# Altium footprint library J 接插件.PcbLib: 458 footprints (part 12 of 29)
Each footprint in its own frame and in the unit in brackets; x right, y up, seen from the top. Pads: shape width x height; smd on the part's side, far side on the other; paste and mask are expansions set on the pad; w line width, h text height; cw(c..) or ccw(c..) is an arc to the next point about the centre after c.
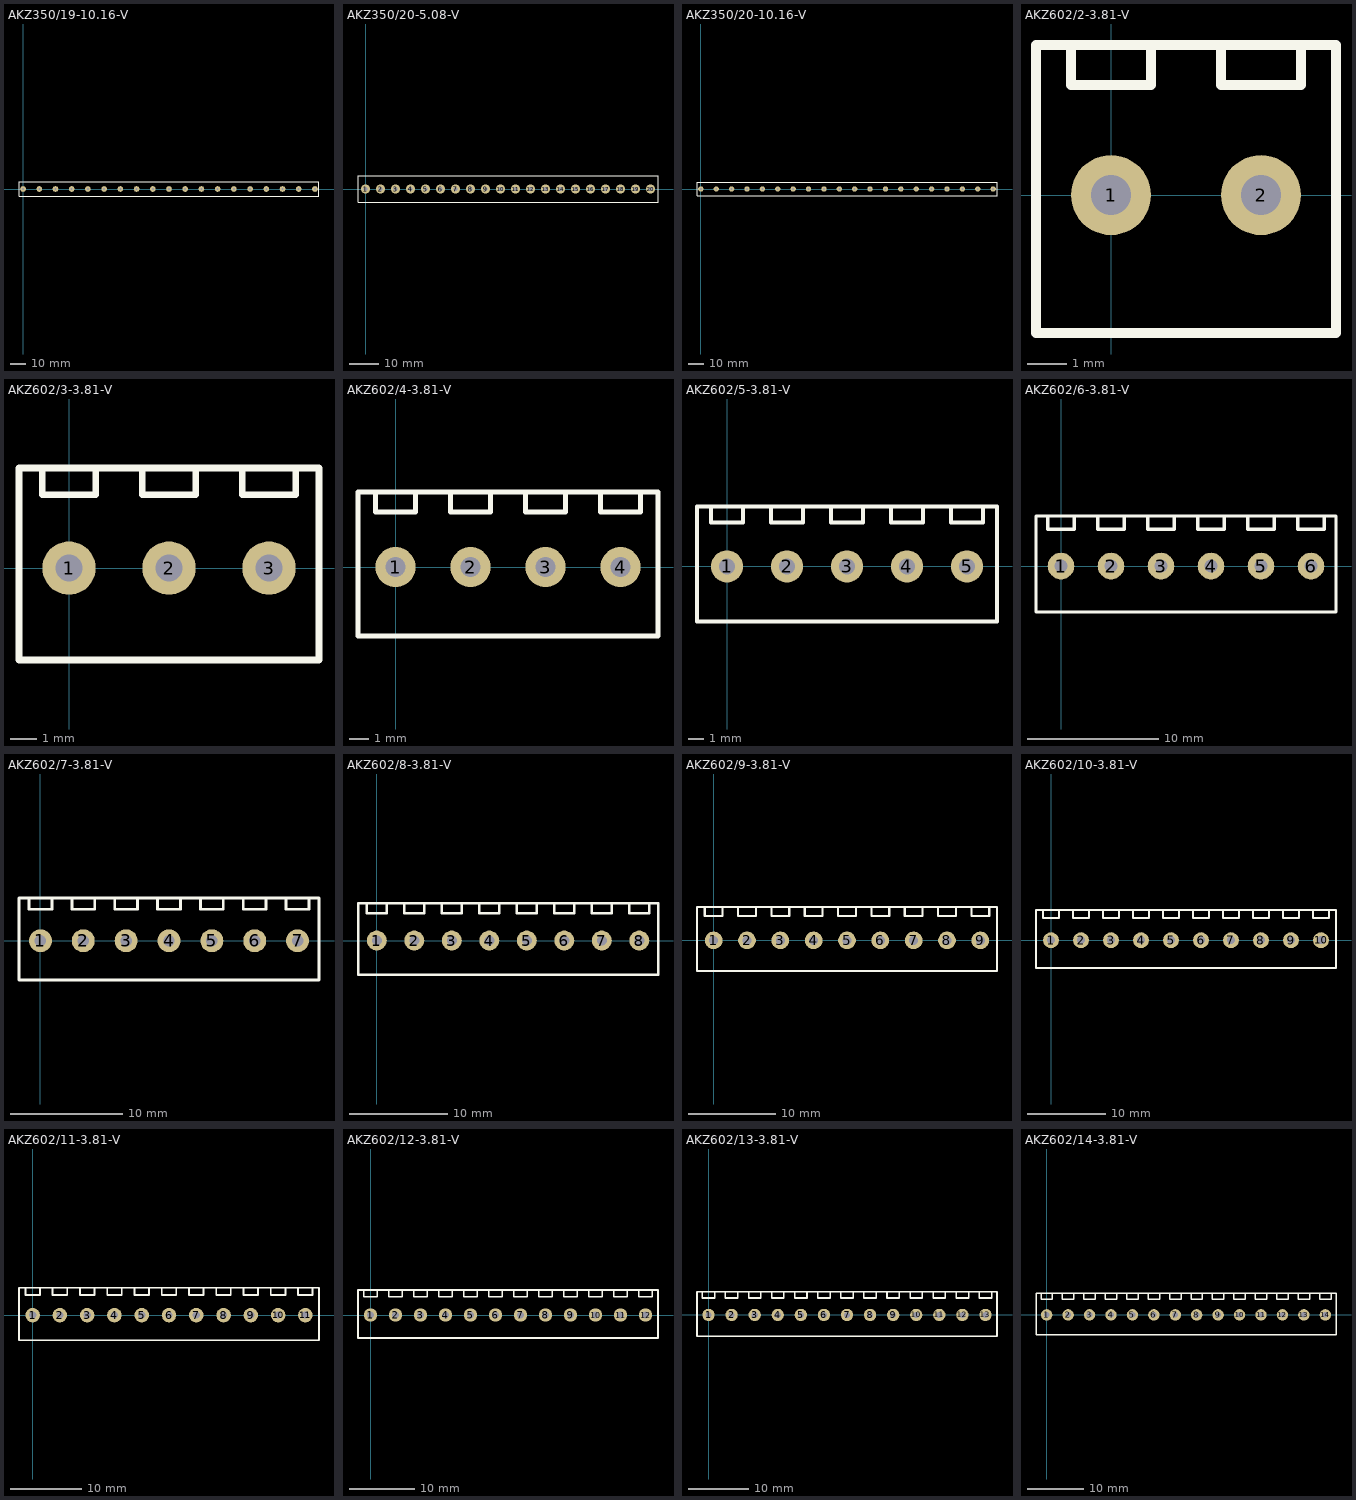
[diagram p11: the footprints below, top view; thin cyan lines are the x and y axes]

## AKZ350/19-10.16-V [mil] "美卡诺 AKZ350 接触件 间距：10.16   19Pin"
height 531.5
pads (19):
  round 140 hole 50: 1(0,0) 2(400,0) 3(800,0) 4(1200,0) 5(1600,0) 6(2000,0) 7(2400,0) 8(2800,0) 9(3200,0) 10(3600,0) 11(4000,0) 12(4400,0) 13(4800,0) 14(5200,0) 15(5600,0) 16(6000,0) 17(6400,0) 18(6800,0) 19(7200,0)
Top Overlay:
  lines w10: -100,-175 -100,175 7300,175 7300,-175 -100,-175

## AKZ350/20-5.08-V [mil] "美卡诺 AKZ350 接触件 间距：5.08   20Pin"
height 531.5
pads (20):
  round 120 hole 50: 1(0,0) 2(200,0) 3(400,0) 4(600,0) 5(800,0) 6(1000,0) 7(1200,0) 8(1400,0) 9(1600,0) 10(1800,0) 11(2000,0) 12(2200,0) 13(2400,0) 14(2600,0) 15(2800,0) 16(3000,0) 17(3200,0) 18(3400,0) 19(3600,0) 20(3800,0)
Top Overlay:
  lines w10: -100,-175 3900,-175 3900,175 -100,175 -100,-175

## AKZ350/20-10.16-V [mil] "美卡诺 AKZ350 接触件 间距：10.16   20Pin"
height 531.5
pads (20):
  round 140 hole 50: 1(0,0) 2(400,0) 3(800,0) 4(1200,0) 5(1600,0) 6(2000,0) 7(2400,0) 8(2800,0) 9(3200,0) 10(3600,0) 11(4000,0) 12(4400,0) 13(4800,0) 14(5200,0) 15(5600,0) 16(6000,0) 17(6400,0) 18(6800,0) 19(7200,0) 20(7600,0)
Top Overlay:
  lines w10: -100,-175 7700,-175 7700,175 -100,175 -100,-175

## AKZ602/2-3.81-V [mil] "美卡诺 AKZ602 接触件 间距：3.81   2Pin"
height 393.7
pads (2):
  round 80 hole 40: 1(0,0) 2(150,0)
Top Overlay:
  lines w10: -40,150 -40,110 40,110 40,150 ; 110,150 110,110 190,110 190,150 ; -75,-137.8 -75,0 -75,150 225,150 225,-137.8 -75,-137.8

## AKZ602/3-3.81-V [mil] "美卡诺 AKZ602 接触件 间距：3.81   3Pin"
height 393.7
pads (3):
  round 80 hole 40: 1(0,0) 2(150,0) 3(300,0)
Top Overlay:
  lines w10: -40,150 -40,110 40,110 40,150 ; 110,150 110,110 190,110 190,150 ; 260,150 260,110 340,110 340,150 ; -75,-137.8 -75,0 -75,150 375,150 375,-137.8 -75,-137.8

## AKZ602/4-3.81-V [mil] "美卡诺 AKZ602 接触件 间距：3.81   4Pin"
height 393.7
pads (4):
  round 80 hole 40: 1(0,0) 2(150,0) 3(300,0) 4(450,0)
Top Overlay:
  lines w10: -40,150 -40,110 40,110 40,150 ; 110,150 110,110 190,110 190,150 ; 260,150 260,110 340,110 340,150 ; 410,150 410,110 490,110 490,150 ; -75,-137.8 525,-137.8 525,150 -75,150 -75,0 -75,-137.8

## AKZ602/5-3.81-V [mil] "美卡诺 AKZ602 接触件 间距：3.81   5Pin"
height 393.7
pads (5):
  round 80 hole 40: 1(0,0) 2(150,0) 3(300,0) 4(450,0) 5(600,0)
Top Overlay:
  lines w10: -40,150 -40,110 40,110 40,150 ; 110,150 110,110 190,110 190,150 ; 260,150 260,110 340,110 340,150 ; 410,150 410,110 490,110 490,150 ; 560,150 560,110 640,110 640,150 ; -75,-137.8 675,-137.8 675,150 -75,150 -75,0 -75,-137.8

## AKZ602/6-3.81-V [mil] "美卡诺 AKZ602 接触件 间距：3.81   6Pin"
height 393.7
pads (6):
  round 80 hole 40: 1(0,0) 2(150,0) 3(300,0) 4(450,0) 5(600,0) 6(750,0)
Top Overlay:
  lines w10: -40,150 -40,110 40,110 40,150 ; 110,150 110,110 190,110 190,150 ; 260,150 260,110 340,110 340,150 ; 410,150 410,110 490,110 490,150 ; 560,150 560,110 640,110 640,150 ; 710,150 710,110 790,110 790,150 ; -75,-137.8 -75,0 -75,150 825,150 825,-137.8 -75,-137.8

## AKZ602/7-3.81-V [mil] "美卡诺 AKZ602 接触件 间距：3.81   7Pin"
height 393.7
pads (7):
  round 80 hole 40: 1(0,0) 2(150,0) 3(300,0) 4(450,0) 5(600,0) 6(750,0) 7(900,0)
Top Overlay:
  lines w10: -40,150 -40,110 40,110 40,150 ; 110,150 110,110 190,110 190,150 ; 260,150 260,110 340,110 340,150 ; 410,150 410,110 490,110 490,150 ; 560,150 560,110 640,110 640,150 ; 710,150 710,110 790,110 790,150 ; 860,150 860,110 940,110 940,150 ; -75,-137.8 975,-137.8 975,150 -75,150 -75,0 -75,-137.8

## AKZ602/8-3.81-V [mil] "美卡诺 AKZ602 接触件 间距：3.81   8Pin"
height 393.7
pads (8):
  round 80 hole 40: 1(0,0) 2(150,0) 3(300,0) 4(450,0) 5(600,0) 6(750,0) 7(900,0) 8(1050,0)
Top Overlay:
  lines w10: -40,150 -40,110 40,110 40,150 ; 110,150 110,110 190,110 190,150 ; 260,150 260,110 340,110 340,150 ; 410,150 410,110 490,110 490,150 ; 560,150 560,110 640,110 640,150 ; 710,150 710,110 790,110 790,150 ; 860,150 860,110 940,110 940,150 ; 1010,150 1010,110 1090,110 1090,150 ; -75,-137.8 1125,-137.8 1125,150 -75,150 -75,0 -75,-137.8

## AKZ602/9-3.81-V [mil] "美卡诺 AKZ602 接触件 间距：3.81   9Pin"
height 393.7
pads (9):
  round 80 hole 40: 1(0,0) 2(150,0) 3(300,0) 4(450,0) 5(600,0) 6(750,0) 7(900,0) 8(1050,0) 9(1200,0)
Top Overlay:
  lines w10: -40,150 -40,110 40,110 40,150 ; 110,150 110,110 190,110 190,150 ; 260,150 260,110 340,110 340,150 ; 410,150 410,110 490,110 490,150 ; 560,150 560,110 640,110 640,150 ; 710,150 710,110 790,110 790,150 ; 860,150 860,110 940,110 940,150 ; 1010,150 1010,110 1090,110 1090,150 ; 1160,150 1160,110 1240,110 1240,150 ; -75,-137.8 1275,-137.8 1275,150 -75,150 -75,0 -75,-137.8

## AKZ602/10-3.81-V [mil] "美卡诺 AKZ602 接触件 间距：3.81   10Pin"
height 393.7
pads (10):
  round 80 hole 40: 1(0,0) 2(150,0) 3(300,0) 4(450,0) 5(600,0) 6(750,0) 7(900,0) 8(1050,0) 9(1200,0) 10(1350,0)
Top Overlay:
  lines w10: -40,150 -40,110 40,110 40,150 ; 110,150 110,110 190,110 190,150 ; 260,150 260,110 340,110 340,150 ; 410,150 410,110 490,110 490,150 ; 560,150 560,110 640,110 640,150 ; 710,150 710,110 790,110 790,150 ; 860,150 860,110 940,110 940,150 ; 1010,150 1010,110 1090,110 1090,150 ; 1160,150 1160,110 1240,110 1240,150 ; 1310,150 1310,110 1390,110 1390,150 ; -75,-137.8 1425,-137.8 1425,150 -75,150 -75,0 -75,-137.8

## AKZ602/11-3.81-V [mil] "美卡诺 AKZ602 接触件 间距：3.81   11Pin"
height 393.7
pads (11):
  round 80 hole 40: 1(0,0) 2(150,0) 3(300,0) 4(450,0) 5(600,0) 6(750,0) 7(900,0) 8(1050,0) 9(1200,0) 10(1350,0) 11(1500,0)
Top Overlay:
  lines w10: -40,150 -40,110 40,110 40,150 ; 110,150 110,110 190,110 190,150 ; 260,150 260,110 340,110 340,150 ; 410,150 410,110 490,110 490,150 ; 560,150 560,110 640,110 640,150 ; 710,150 710,110 790,110 790,150 ; 860,150 860,110 940,110 940,150 ; 1010,150 1010,110 1090,110 1090,150 ; 1160,150 1160,110 1240,110 1240,150 ; 1310,150 1310,110 1390,110 1390,150 ; 1460,150 1460,110 1540,110 1540,150 ; -75,-137.8 -75,0 -75,150 1575,150 1575,-137.8 -75,-137.8

## AKZ602/12-3.81-V [mil] "美卡诺 AKZ602 接触件 间距：3.81   12Pin"
height 393.7
pads (12):
  round 80 hole 40: 1(0,0) 2(150,0) 3(300,0) 4(450,0) 5(600,0) 6(750,0) 7(900,0) 8(1050,0) 9(1200,0) 10(1350,0) 11(1500,0) 12(1650,0)
Top Overlay:
  lines w10: -40,150 -40,110 40,110 40,150 ; 110,150 110,110 190,110 190,150 ; 260,150 260,110 340,110 340,150 ; 410,150 410,110 490,110 490,150 ; 560,150 560,110 640,110 640,150 ; 710,150 710,110 790,110 790,150 ; 860,150 860,110 940,110 940,150 ; 1010,150 1010,110 1090,110 1090,150 ; 1160,150 1160,110 1240,110 1240,150 ; 1310,150 1310,110 1390,110 1390,150 ; 1460,150 1460,110 1540,110 1540,150 ; 1610,150 1610,110 1690,110 1690,150 ; -75,-137.8 -75,0 -75,150 1725,150 1725,-137.8 -75,-137.8

## AKZ602/13-3.81-V [mil] "美卡诺 AKZ602 接触件 间距：3.81   13Pin"
height 393.7
pads (13):
  round 80 hole 40: 1(0,0) 2(150,0) 3(300,0) 4(450,0) 5(600,0) 6(750,0) 7(900,0) 8(1050,0) 9(1200,0) 10(1350,0) 11(1500,0) 12(1650,0) 13(1800,0)
Top Overlay:
  lines w10: -40,150 -40,110 40,110 40,150 ; 110,150 110,110 190,110 190,150 ; 260,150 260,110 340,110 340,150 ; 410,150 410,110 490,110 490,150 ; 560,150 560,110 640,110 640,150 ; 710,150 710,110 790,110 790,150 ; 860,150 860,110 940,110 940,150 ; 1010,150 1010,110 1090,110 1090,150 ; 1160,150 1160,110 1240,110 1240,150 ; 1310,150 1310,110 1390,110 1390,150 ; 1460,150 1460,110 1540,110 1540,150 ; 1610,150 1610,110 1690,110 1690,150 ; 1760,150 1760,110 1840,110 1840,150 ; -75,-137.8 -75,0 -75,150 1875,150 1875,-137.8 -75,-137.8

## AKZ602/14-3.81-V [mil] "美卡诺 AKZ602 接触件 间距：3.81   14Pin"
height 393.7
pads (14):
  round 80 hole 40: 1(0,0) 2(150,0) 3(300,0) 4(450,0) 5(600,0) 6(750,0) 7(900,0) 8(1050,0) 9(1200,0) 10(1350,0) 11(1500,0) 12(1650,0) 13(1800,0) 14(1950,0)
Top Overlay:
  lines w10: -40,150 -40,110 40,110 40,150 ; 110,150 110,110 190,110 190,150 ; 260,150 260,110 340,110 340,150 ; 410,150 410,110 490,110 490,150 ; 560,150 560,110 640,110 640,150 ; 710,150 710,110 790,110 790,150 ; 860,150 860,110 940,110 940,150 ; 1010,150 1010,110 1090,110 1090,150 ; 1160,150 1160,110 1240,110 1240,150 ; 1310,150 1310,110 1390,110 1390,150 ; 1460,150 1460,110 1540,110 1540,150 ; 1610,150 1610,110 1690,110 1690,150 ; 1760,150 1760,110 1840,110 1840,150 ; 1910,150 1910,110 1990,110 1990,150 ; -75,-137.8 -75,0 -75,150 2025,150 2025,-137.8 -75,-137.8